# EAGLE library part 2EDF7275K (library 2EDF7275K)
2EDF7275K TFLGA65P500X500X106-14_13N-V EiceDRIVER, Two Channel Isolated ISO Driver
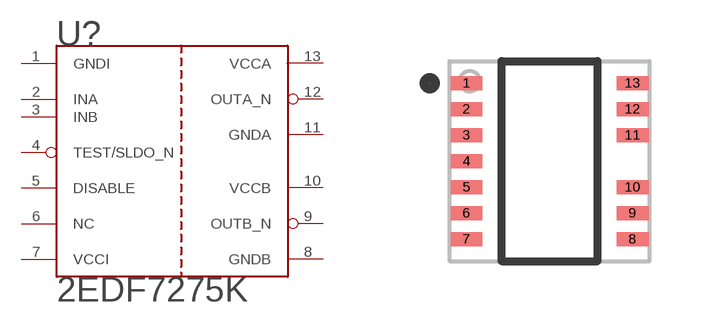
[diagram p0: symbol with the pads of TFLGA65P500X500X106-14_13N-V; footprint TFLGA65P500X500X106-14_13N-V]

Designator prefix U?

## 2EDF7275K  [TFLGA65P500X500X106-14_13N-V]
1  GNDI  pwr
2  INA  in
3  INB  in
4  TEST/SLDO_N  in
5  DISABLE  in
6  NC  pas
7  VCCI  pwr
8  GNDB  pwr
9  OUTB_N  out
10  VCCB  pwr
11  GNDA  pwr
12  OUTA_N  out
13  VCCA  pwr

## Footprint TFLGA65P500X500X106-14_13N-V (pad centres in mm)
Original name TFLGA65P500X500X106-14_13N-V Max Component Height - 1.06mm
smd 0.8 x 0.35: 1 -2.075,1.95; 2 -2.075,1.3; 3 -2.075,0.65; 4 -2.075,0; 5 -2.075,-0.65; 6 -2.075,-1.3; 7 -2.075,-1.95; 8 2.075,-1.95; 9 2.075,-1.3; 10 2.075,-0.65; 11 2.075,0.65; 12 2.075,1.3; 13 2.075,1.95